# Altium schematic symbol library BM29B0.6-24DS_2-0.35V(51).SchLib: 1 symbol
Pins are listed as number, name and electrical type; pins without a type are passive.

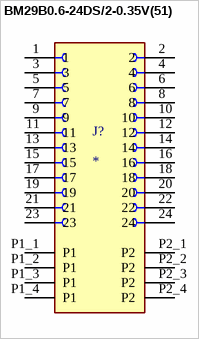
[diagram p0: symbol BM29B0.6-24DS/2-0.35V(51)]

## BM29B0.6-24DS/2-0.35V(51)
designator J?
26 (24 + 2 Power) Position Connector Receptacle, Center Strip Contacts Surface Mount Gold; MF: Hirose Connector; MP: BM29B0.6-24DS/2-0.35V(51); SnapEDA_Link: https://www.snapeda.com/parts/BM29B0.6-24DS/2-0.35V(51)/Hirose/view-part/?ref=snap; Package: None; Value: *; Check_prices: https://www.snapeda.com/parts/BM29B0.6-24DS/2-0.35V(51)/Hirose/view-part/?ref=eda
footprint HRS_BM29B0.6-24DS/2-0.35V(51)
pins: 1, 2, 3, 4, 5, 6, 7, 8, 9, 10, 11, 12, 13, 14, 15, 16, 17, 18, 19, 20, 21, 22, 23, 24, P1_1 P1 (power), P1_2 P1 (power), P1_3 P1 (power), P1_4 P1 (power), P2_1 P2 (power), P2_2 P2 (power), P2_3 P2 (power), P2_4 P2 (power)